# EAGLE library part TLV320AIC3107 (library TLV320AIC3107)
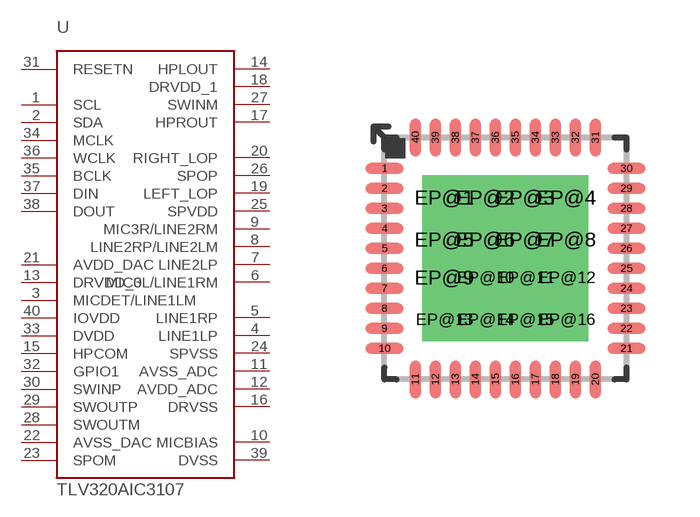
[diagram p0: symbol with the pads of QFN40-6X6; footprint QFN40-6X6]

Designator prefix -

## TLV320AIC3107  [QFN40-6X6]
1  SCL
2  SDA
3  MICDET/LINE1LM
4  LINE1LP
5  LINE1RP
6  MIC3L/LINE1RM
7  LINE2LP
8  LINE2RP/LINE2LM
9  MIC3R/LINE2RM
10  MICBIAS
11  AVSS_ADC
12  AVDD_ADC
13  DRVDD_0
14  HPLOUT
15  HPCOM
16  DRVSS
17  HPROUT
18  DRVDD_1
19  LEFT_LOP
20  RIGHT_LOP
21  AVDD_DAC
22  AVSS_DAC
23  SPOM
24  SPVSS
25  SPVDD
26  SPOP
27  SWINM
28  SWOUTM
29  SWOUTP
30  SWINP
31  RESETN
32  GPIO1
33  DVDD
34  MCLK
35  BCLK
36  WCLK
37  DIN
38  DOUT
39  DVSS
40  IOVDD

## Footprint QFN40-6X6 (pad centres in mm)
RHA (S-PQFP-N40) 6 x 6 mm Source: http://focus.ti.com/lit/ds/symlink/tps65020.pdf
smd 0.95 x 0.28: 1 -3.025,2.25; 2 -3.025,1.75; 3 -3.025,1.25; 4 -3.025,0.75; 5 -3.025,0.25; 6 -3.025,-0.25; 7 -3.025,-0.75; 8 -3.025,-1.25; 9 -3.025,-1.75; 10 -3.025,-2.25; 21 3.025,-2.25; 22 3.025,-1.75; 23 3.025,-1.25; 24 3.025,-0.75; 25 3.025,-0.25; 26 3.025,0.25; 27 3.025,0.75; 28 3.025,1.25; 29 3.025,1.75; 30 3.025,2.25
smd 0.28 x 0.95: 11 -2.25,-3.025; 12 -1.75,-3.025; 13 -1.25,-3.025; 14 -0.75,-3.025; 15 -0.25,-3.025; 16 0.25,-3.025; 17 0.75,-3.025; 18 1.25,-3.025; 19 1.75,-3.025; 20 2.25,-3.025; 31 2.25,3.025; 32 1.75,3.025; 33 1.25,3.025; 34 0.75,3.025; 35 0.25,3.025; 36 -0.25,3.025; 37 -0.75,3.025; 38 -1.25,3.025; 39 -1.75,3.025; 40 -2.25,3.025
drill 0.3 pad 1.1 square: EP@1 -1.525,1.525; EP@2 -0.5,1.525; EP@3 0.5,1.525; EP@4 1.525,1.525; EP@5 -1.525,0.475; EP@6 -0.5,0.475; EP@7 0.5,0.475; EP@8 1.525,0.475; EP@9 -1.525,-0.475; EP@10 -0.5,-0.475; EP@11 0.5,-0.475; EP@12 1.525,-0.475; EP@13 -1.525,-1.525; EP@14 -0.5,-1.525; EP@15 0.5,-1.525; EP@16 1.525,-1.525